# Altium footprint library PcbLib1_Source_IoT.PcbLib: 58 footprints (part 1 of 4)
Each footprint in its own frame and in the unit in brackets; x right, y up, seen from the top. Pads: shape width x height; smd on the part's side, far side on the other; paste and mask are expansions set on the pad; w line width, h text height; cw(c..) or ccw(c..) is an arc to the next point about the centre after c.
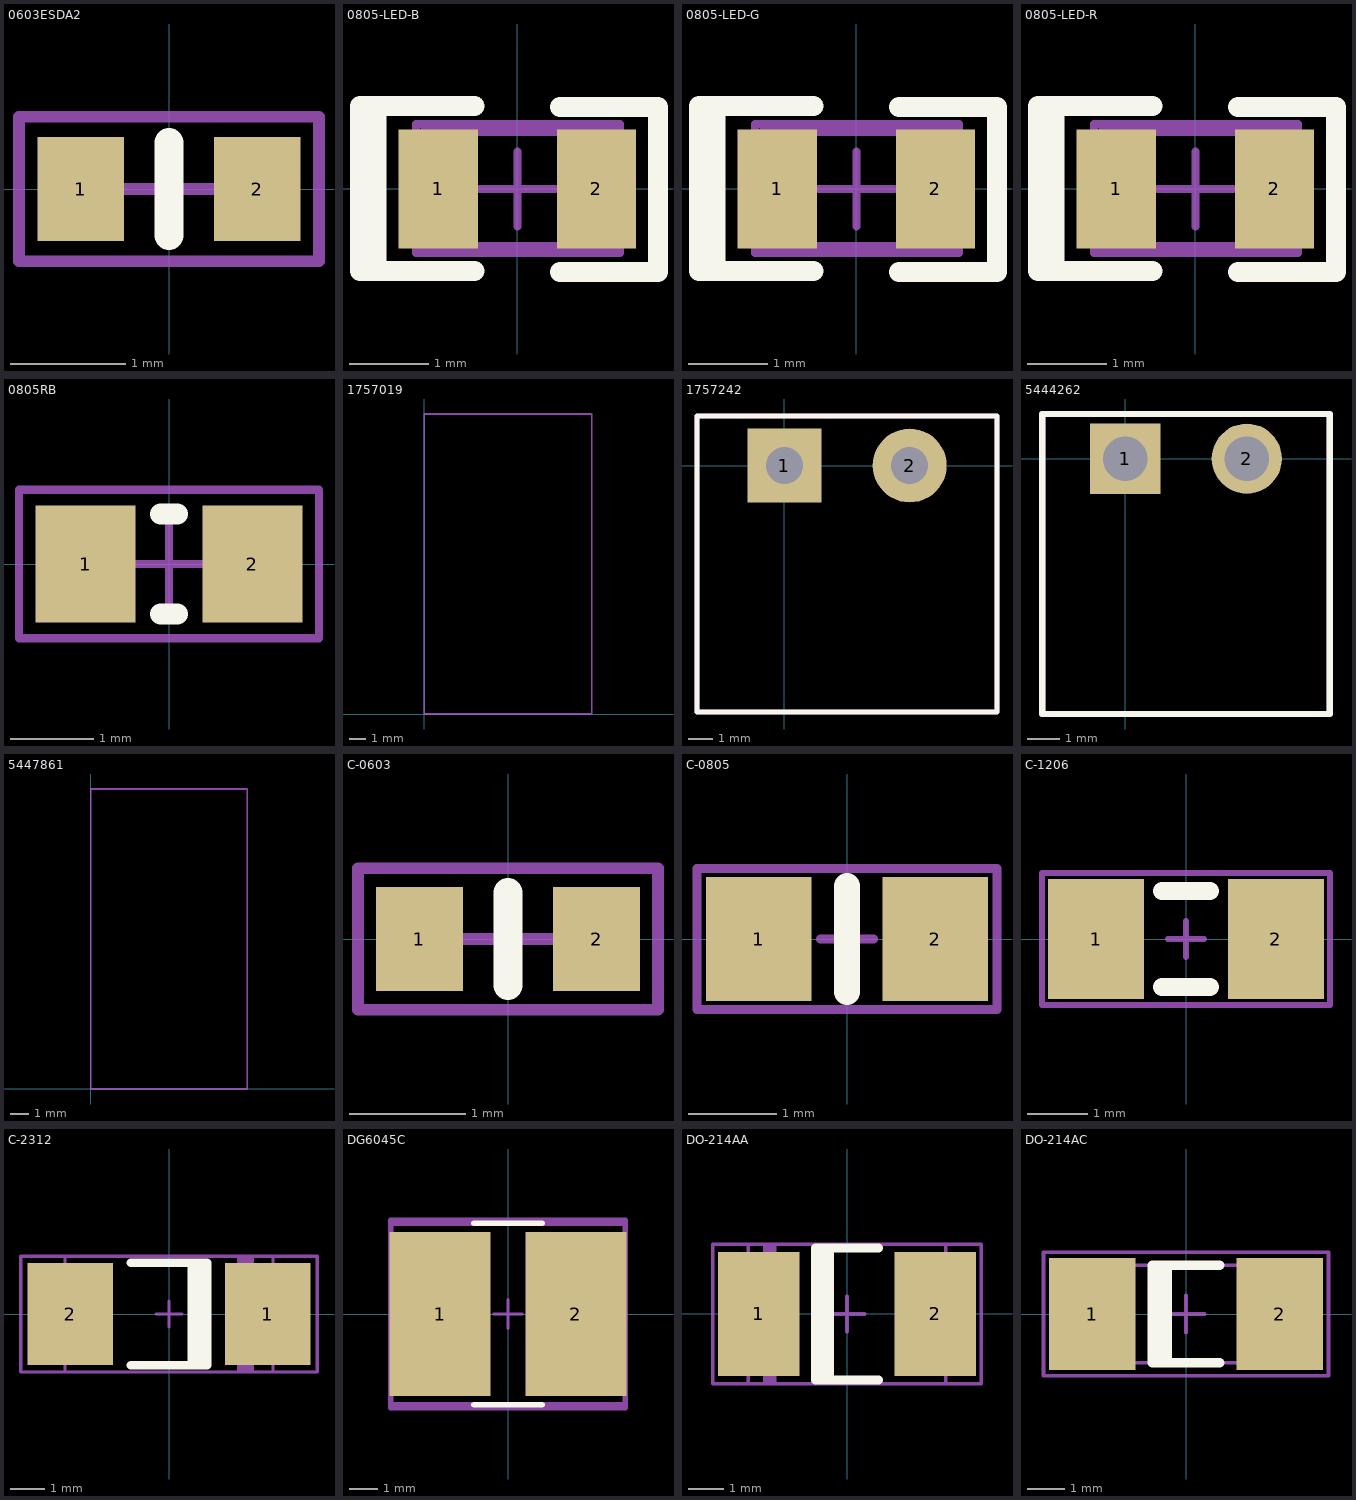
[diagram p0: the footprints below, top view; thin cyan lines are the x and y axes]

## 0603ESDA2 [mm]
pads (2):
  rect 0.75x0.9 smd mask+0.1: 1(-0.765,0) 2(0.765,0)
Top Overlay:
  lines w0.254: 0,-0.4 0,0.4
Top Assembly:
  lines w0.1: -1.3,-0.625 1.3,-0.625 1.3,0.625 -1.3,0.625 -1.3,-0.625
  text "'.Designator'" at -0.975,-0.371 h1.2
Mechanical:
  lines w0.1: -0.375,0 0.375,0 ; 0,-0.375 0,0.375 ; -1.3,-0.625 1.3,-0.625 1.3,0.625 -1.3,0.625 -1.3,-0.625
3D body "User Library-0603ESDA.STEP": height 0.61, standoff 0.01, extent -0.85,-0.425 0.85,0.425

## 0805-LED-B [mm]
height 0.9
pads (2):
  rect 1x1.5 smd: 1(-1,0) 2(1,0)
Top Overlay:
  rectangle: -2.015,-0.96 -1.655,1.05
  lines w0.254: -0.54,-1.04 -1.99,-1.04 -1.99,1.05 -0.54,1.05 ; 0.54,-1.05 1.78,-1.05 1.78,1.04 0.54,1.04
Top Assembly:
  lines w0.1: -1.2,-0.72 -1.2,0.72 1.23,0.72 1.23,-0.72 -1.2,-0.72
  text "'.Designator'" at -0.975,-0.371 h1.2
Mechanical:
  lines w0.1: -0.475,0 0.475,0 ; 0,-0.475 0,0.475 ; -1.28,-0.81 1.3,-0.81 1.3,0.82 -1.28,0.82 -1.28,-0.81
3D body "User Library-led_0805LED0805_blue.STEP": height 1.1, standoff 0, extent -1.01,-0.625 1.01,0.625

## 0805-LED-G [mm]
height 0.9
pads (2):
  rect 1x1.5 smd: 1(-1,0) 2(1,0)
Top Overlay:
  rectangle: -2.015,-0.96 -1.655,1.05
  lines w0.254: -0.54,-1.04 -1.99,-1.04 -1.99,1.05 -0.54,1.05 ; 0.54,-1.05 1.78,-1.05 1.78,1.04 0.54,1.04
Top Assembly:
  lines w0.1: -1.2,-0.72 1.23,-0.72 1.23,0.72 -1.2,0.72 -1.2,-0.72
  text "'.Designator'" at -0.975,-0.371 h1.2
Mechanical:
  lines w0.1: -0.475,0 0.475,0 ; 0,-0.475 0,0.475 ; -1.28,-0.81 -1.28,0.82 1.3,0.82 1.3,-0.81 -1.28,-0.81
3D body "User Library-User Library-led_0805 GRE.STEP": height 1.1, standoff 0, extent -1.01,-0.605 1.01,0.645

## 0805-LED-R [mm]
height 0.9
pads (2):
  rect 1x1.5 smd: 1(-1,0) 2(1,0)
Top Overlay:
  rectangle: -2.015,-0.96 -1.655,1.05
  lines w0.254: -0.54,-1.04 -1.99,-1.04 -1.99,1.05 -0.54,1.05 ; 0.54,-1.05 1.78,-1.05 1.78,1.04 0.54,1.04
Top Assembly:
  lines w0.1: -1.2,-0.72 -1.2,0.72 1.23,0.72 1.23,-0.72 -1.2,-0.72
  text "'.Designator'" at -0.975,-0.371 h1.2
Mechanical:
  lines w0.1: -0.475,0 0.475,0 ; 0,-0.475 0,0.475 ; -1.28,-0.81 1.3,-0.81 1.3,0.82 -1.28,0.82 -1.28,-0.81
3D body "User Library-led_0805LED0805_red.STEP": height 1.1, standoff 0, extent -1.01,-0.605 1.01,0.645

## 0805RB [mm]
pads (2):
  rect 1.2x1.4 smd: 1(-1,0) 2(1,0)
Top Overlay:
  lines w0.254: -0.1,-0.6 0.1,-0.6 ; -0.1,0.6 0.1,0.6
Top Assembly:
  lines w0.1: -1.8,-0.889 -1.8,0.889 1.8,0.889 1.8,-0.889 -1.8,-0.889
  text "'.Designator'" at -0.75,-0.35 h1.2
Mechanical:
  lines w0.1: -0.5,0 0.5,0 ; 0,-0.5 0,0.5 ; -1.8,-0.889 -1.8,0.889 1.8,0.889 1.8,-0.889 -1.8,-0.889
3D body "Coilcraft-0805RB.step": height 1.52, standoff 0, extent -1.145,-0.865 1.145,0.865

## 1757019 [mm]
Top Assembly:
  lines w0.1: 0,0 0,18.3 10.225,18.3 10.225,0 0,0
  text "'.Designator'" at 4.714,11.969 h1.5
Mechanical:
  lines w0.1: 0,0 0,18.3 10.225,18.3 10.225,0 0,0
3D body "pxc_1757019_06_MSTB-2-5-2-ST-5-08_3D.stp": height 15.2, standoff 0.2, extent 0,0 10.22,18.3

## 1757242 [mm]
pads (2):
  rect 3x3 hole 1.5: 1(0,0)
  round 3 hole 1.5: 2(5.08,0)
Top Overlay:
  lines w0.2: -3.54,-9.993 -3.54,2.009 8.62,2.009 8.62,-9.993 -3.54,-9.993
Top Assembly:
  lines w0.2: -3.54,-9.993 -3.54,2.009 8.62,2.009 8.62,-9.993 -3.54,-9.993
  text "'.Designator'" at 1.789,-4.331 h1.5
Mechanical:
  lines w0.2: -3.54,-9.993 8.62,-9.993 8.62,2.009 -3.54,2.009 -3.54,-9.993
3D body "pxc_1757242_06_MSTBA-2-5-2-G-5-08_3D.stp": height 8.7, standoff -3.4, extent -3.54,-9.993 8.62,2.009

## 5444262 [mm]
pads (2):
  rect 2.2x2.2 hole 1.4: 1(0,0)
  round 2.2 hole 1.4: 2(3.81,0)
Top Overlay:
  lines w0.2: -2.6,-8 6.41,-8 6.41,1.4 -2.6,1.4 -2.6,-8
Top Assembly:
  lines w0.2: -2.6,-8 6.41,-8 6.41,1.4 -2.6,1.4 -2.6,-8
  text "'.Designator'" at 1.789,-4.331 h1.5
Mechanical:
  lines w0.2: 6.4,-8 -2.6,-8 -2.6,1.4 6.41,1.4 6.41,-8
3D body "pxc_1803277_05_MC-1-5-2-G-3-81_3D.stp": height 7.25, standoff -3.4, extent -2.6,-7.95 6.41,1.344

## 5447861 [mm]
Top Assembly:
  lines w0.1: 0,0 0,16.1 8.4,16.1 8.4,0 0,0
  text "'.Designator'" at 3.014,11.969 h1.5
Mechanical:
  lines w0.1: 0,0 0,16.1 8.4,16.1 8.4,0 0,0
3D body "pxc_1803578_07_MC-1-5-2-ST-3-81_3D.stp": height 7.7, standoff -3.4, extent 0,0 8.41,16.1

## C-0603 [mm]
pads (2):
  rect 0.75x0.9 smd mask+0.1: 1(-0.765,0) 2(0.765,0)
Top Overlay:
  lines w0.254: 0,-0.4 0,0.4
Top Assembly:
  lines w0.1: -1.295,-0.61 1.295,-0.61 1.295,0.61 -1.295,0.61 -1.295,-0.61
  text "'.Designator'" at -0.975,-0.371 h1.2
Mechanical:
  lines w0.1: -0.375,0 0.375,0 ; 0,-0.375 0,0.375 ; -1.295,-0.61 1.295,-0.61 1.295,0.61 -1.295,0.61 -1.295,-0.61
3D body "User Library-Chip Capacitor2.step": height 0.8, standoff 0, extent -0.8,-0.43 0.8,0.43

## C-0805 [mm]
pads (2):
  rect 1.2x1.4 smd: 1(-1,0) 2(1,0)
Top Overlay:
  lines w0.3: 0,-0.6 0,0.6
Top Assembly:
  lines w0.1: -1.7,-0.8 -1.7,0.8 1.7,0.8 1.7,-0.8 -1.7,-0.8
  text "'.Designator'" at -1.5,-0.375 h1.2
Mechanical:
  lines w0.1: -0.3,0 0.3,0 ; 0,-0.3 0,0.3 ; -1.7,-0.8 -1.7,0.8 1.7,0.8 1.7,-0.8 -1.7,-0.8
3D body "User Library-Ceramic_Capacitor_0805_h32mil.STEP": height 0.81, standoff 0.01, extent -1,-0.625 1,0.625

## C-1206 [mm]
pads (2):
  rect 1.6x2 smd: 1(-1.5,0) 2(1.5,0)
Top Overlay:
  lines w0.3: -0.4,-0.8 0.4,-0.8 ; -0.4,0.8 0.4,0.8
Top Assembly:
  lines w0.1: -2.4,-1.1 -2.4,1.1 2.4,1.1 2.4,-1.1 -2.4,-1.1
  text "'.Designator'" at -1.7,-0.375 h1.2
Mechanical:
  lines w0.1: -0.3,0 0.3,0 ; 0,-0.3 0,0.3 ; -2.4,-1.1 -2.4,1.1 2.4,1.1 2.4,-1.1 -2.4,-1.1
3D body "User Library-Ceramic_Capacitor_1206_h46mil.STEP": height 1.16, standoff 0.01, extent -1.605,-0.791 1.595,0.809

## C-2312 [mm]
pads (2):
  rect 2.5x3 smd mask+0.1: 1(2.9,0) 2(-2.9,0)
Top Overlay:
  lines w0.254: -1.125,-1.5 1.125,-1.5 1.125,1.5 -1.125,1.5 ; 0.675,-1.5 0.675,1.5 ; 0.9,-1.5 0.9,1.5
Top Assembly:
  region: 2.5,1.7 2,1.7 2,-1.7 2.5,-1.7
  lines w0.1: -3.05,-1.7 -3.05,1.7 3.05,1.7 3.05,-1.7 -3.05,-1.7
  text "'.Designator'" at 0.975,0.371 h1.2
Mechanical:
  lines w0.1: -0.375,0 0.375,0 ; 0,-0.375 0,0.375 ; -4.35,-1.7 -4.35,1.7 4.35,1.7 4.35,-1.7 -4.35,-1.7
3D body "User Library-AVX_C_CASE.step": height 2.7, standoff 0, extent -3.05,-1.675 3.05,1.675

## DG6045C [mm]
pads (2):
  rect 3.5x5.7 smd: 1(-2.35,0) 2(2.35,0)
Top Overlay:
  lines w0.2: -1.175,-3.15 1.175,-3.15 ; -1.175,3.15 1.175,3.15
Top Assembly:
  lines w0.2: -4.064,-3.25 -4.064,3.25 4.064,3.25 4.064,-3.25 -4.064,-3.25 ; -4.064,-3.15 -4.064,3.15 4.064,3.15 4.064,-3.15 -4.064,-3.15
  text "'.Designator'" at 0,-0.001 h1
Board:
  lines w0.2: -4.064,-3.25 -4.064,3.25 4.064,3.25 4.064,-3.25 -4.064,-3.25
Top Component Center:
  lines w0.1: -0.5,0 0.5,0 ; 0,-0.5 0,0.5
3D body "Ind_Murata_1255AY-100M=P3_eec.STEP": height 4.5, standoff 0, extent -2.948,-3.052 3.052,2.948

## DO-214AA [mm]
pads (2):
  rect 2.3x3.5 smd mask+0.1: 1(-2.5,0) 2(2.5,0)
Top Overlay:
  rectangle: -0.9,-2 -0.5,2
  lines w0.254: -0.5,-1.875 -0.5,1.875 ; 0.9,-1.875 -0.9,-1.875 -0.9,1.875 0.9,1.875
Top Assembly:
  rectangle: -2.375,-1.975 -2,1.975
  lines w0.1: -2.8,-1.975 2.8,-1.975 2.8,1.975 -2.8,1.975 -2.8,-1.975
  text "'.Designator'" at -0.975,-0.375 h1.5
Mechanical:
  lines w0.1: -0.5,0 0.5,0 ; 0,-0.5 0,0.5 ; -3.8,-1.975 -3.8,1.975 3.8,1.975 3.8,-1.975 -3.8,-1.975
3D body "User Library-DO-214AA(SMB).step": height 2.65, standoff 0, extent -2.794,-1.975 2.794,1.975

## DO-214AC [mm]
pads (2):
  rect 2.3x3 smd mask+0.1: 1(-2.5,0) 2(2.5,0)
Top Overlay:
  rectangle: -0.9,-1.3 -0.5,1.3
  lines w0.254: -0.5,-1.3 -0.5,1.3 ; 0.9,-1.3 -0.9,-1.3 -0.9,1.3 0.9,1.3
Top Assembly:
  rectangle: -1.975,-1.3 -1.6,1.3
  lines w0.1: -2.6,-1.3 2.6,-1.3 2.6,1.3 -2.6,1.3 -2.6,-1.3
  text "'.Designator'" at -0.975,-0.375 h1.5
Mechanical:
  lines w0.1: -0.5,0 0.5,0 ; 0,-0.5 0,0.5 ; -3.8,-1.65 -3.8,1.65 3.8,1.65 3.8,-1.65 -3.8,-1.65
3D body "User Library-DO-214AC SMA.step": height 2.4, standoff 0, extent -2.6,-1.3 2.6,1.3